# EAGLE library part STUSB4500QTR (library ruark2)
USB Controller USB 2.0 I²C Interface 24-QFN (4x4)
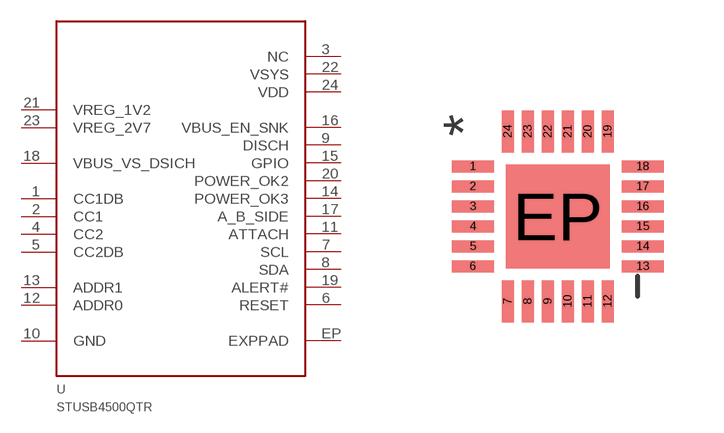
[diagram p127: symbol with the pads of QFN24-44; footprint QFN24-44]

Designator prefix U

## STUSB4500QTR (PARTNO: 497-18060-1-ND)  [QFN24-44]
1  CC1DB
2  CC1
3  NC
4  CC2
5  CC2DB
6  RESET
7  SCL
8  SDA
9  DISCH
10  GND
11  ATTACH
12  ADDR0
13  ADDR1
14  POWER_OK3
15  GPIO
16  VBUS_EN_SNK
17  A_B_SIDE
18  VBUS_VS_DSICH
19  ALERT#
20  POWER_OK2
21  VREG_1V2
22  VSYS
23  VREG_2V7
24  VDD
EP  EXPPAD

## Footprint QFN24-44 (pad centres in mm)
smd 1.05 x 0.3: 1 -2.125,1.25; 2 -2.125,0.75; 3 -2.125,0.25; 4 -2.125,-0.25; 5 -2.125,-0.75; 6 -2.125,-1.25; 13 2.125,-1.25; 14 2.125,-0.75; 15 2.125,-0.25; 16 2.125,0.25; 17 2.125,0.75; 18 2.125,1.25
smd 0.3 x 1.05: 7 -1.25,-2.125; 8 -0.75,-2.125; 9 -0.25,-2.125; 10 0.25,-2.125; 11 0.75,-2.125; 12 1.25,-2.125; 19 1.25,2.125; 20 0.75,2.125; 21 0.25,2.125; 22 -0.25,2.125; 23 -0.75,2.125; 24 -1.25,2.125
smd 2.6 x 2.6: EP 0,0